# EAGLE library part ESP32-30PIN (library ESP32)
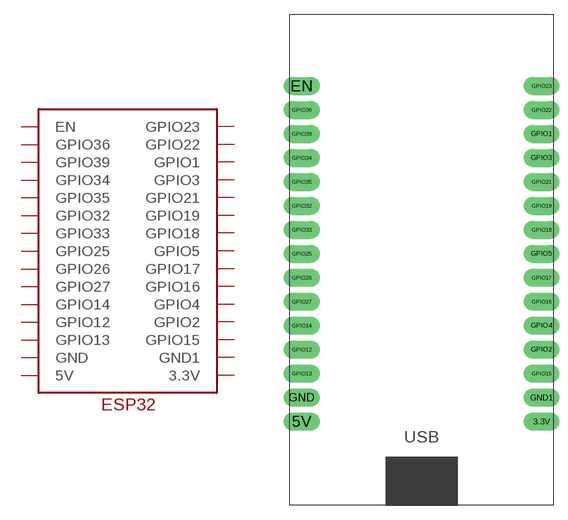
[diagram p3: symbol with the pads of ESP32-30PIN; footprint ESP32-30PIN]

Designator prefix -

## ESP32-30PIN  [ESP32-30PIN]
3.3V  3.3V
5V  5V
EN  EN
GND  GND
GND1  GND1
GPIO1  GPIO1
GPIO2  GPIO2
GPIO3  GPIO3
GPIO4  GPIO4
GPIO5  GPIO5
GPIO12  GPIO12
GPIO13  GPIO13
GPIO14  GPIO14
GPIO15  GPIO15
GPIO16  GPIO16
GPIO17  GPIO17
GPIO18  GPIO18
GPIO19  GPIO19
GPIO21  GPIO21
GPIO22  GPIO22
GPIO23  GPIO23
GPIO25  GPIO25
GPIO26  GPIO26
GPIO27  GPIO27
GPIO32  GPIO32
GPIO33  GPIO33
GPIO34  GPIO34
GPIO35  GPIO35
GPIO36  GPIO36
GPIO39  GPIO39

## Footprint ESP32-30PIN (pad centres in mm)
drill 0.85 pad 1.93 long: 3.3V 26.67,1.27; 5V 1.27,1.27; EN 1.27,36.83; GND 1.27,3.81; GND1 26.67,3.81; GPIO1 26.67,31.75; GPIO2 26.67,8.89; GPIO3 26.67,29.21; GPIO4 26.67,11.43; GPIO5 26.67,19.05; GPIO12 1.27,8.89; GPIO13 1.27,6.35; GPIO14 1.27,11.43; GPIO15 26.67,6.35; GPIO16 26.67,13.97; GPIO17 26.67,16.51; GPIO18 26.67,21.59; GPIO19 26.67,24.13; GPIO21 26.67,26.67; GPIO22 26.67,34.29; GPIO23 26.67,36.83; GPIO25 1.27,19.05; GPIO26 1.27,16.51; GPIO27 1.27,13.97; GPIO32 1.27,24.13; GPIO33 1.27,21.59; GPIO34 1.27,29.21; GPIO35 1.27,26.67; GPIO36 1.27,34.29; GPIO39 1.27,31.75